# Altium footprint library Pcb_Passive_Componnent.PcbLib: 5 footprints
Each footprint in its own frame and in the unit in brackets; x right, y up, seen from the top. Pads: shape width x height; smd on the part's side, far side on the other; paste and mask are expansions set on the pad; w line width, h text height; cw(c..) or ccw(c..) is an arc to the next point about the centre after c.
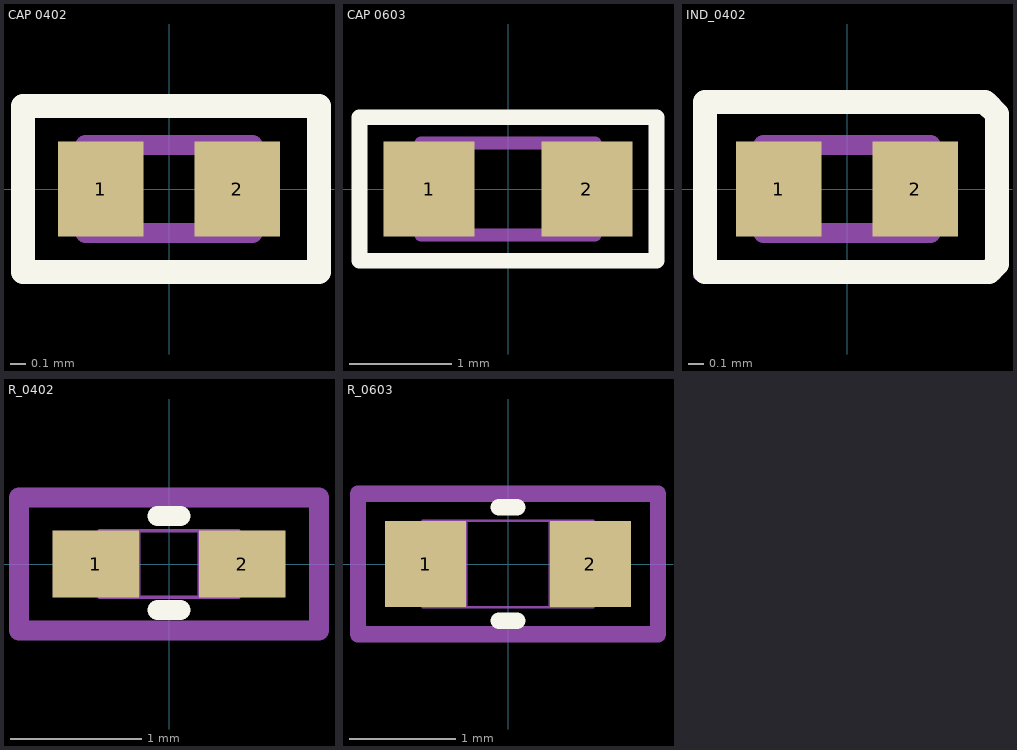
[diagram p0: the footprints below, top view; thin cyan lines are the x and y axes]

## CAP 0402 [mm]
pads (2):
  rect 0.54x0.6 smd: 1(-0.432,0) 2(0.432,0)
Top Overlay:
  lines w0.153: -0.925,-0.525 0.95,-0.525 0.95,0.525 0.481,0.525 -0.456,0.525 -0.925,0.525 -0.925,-0.525
Mechanical 13:
  lines w0.127: -0.53,-0.28 -0.53,0.28 0.53,0.28 0.53,-0.28 -0.53,-0.28
Mechanical 15:
  lines w0.05: -0.95,-0.55 -0.95,0.55 0.95,0.55 0.95,-0.55 -0.95,-0.55
3D body "step_temp.STEP": height 0.55, standoff 0, extent -0.5,-0.25 0.5,0.25

## CAP 0603 [mm]
pads (2):
  rect 0.89x0.93 smd: 1(-0.77,0) 2(0.77,0)
Top Overlay:
  lines w0.153: -1.45,-0.7 -1.45,0.7 1.45,0.7 1.45,-0.7 -1.45,-0.7
Mechanical 13:
  lines w0.127: -0.85,-0.45 0.85,-0.45 0.85,0.45 -0.85,0.45 -0.85,-0.45
Mechanical 15:
  lines w0.05: -1.465,-0.715 1.465,-0.715 1.465,0.715 -1.465,0.715 -1.465,-0.715
3D body "step_temp.STEP": height 0.9, standoff 0, extent -0.8,-0.4 0.8,0.4

## IND_0402 [mm]
pads (2):
  rect 0.54x0.6 smd: 1(-0.432,0) 2(0.432,0)
Top Overlay:
  lines w0.153: -0.9,-0.525 0.9,-0.525 0.95,-0.475 0.95,0.475 0.875,0.55 -0.9,0.55 -0.9,-0.525
Mechanical 13:
  lines w0.127: -0.53,-0.28 0.53,-0.28 0.53,0.28 -0.53,0.28 -0.53,-0.28
Mechanical 15:
  lines w0.05: -0.95,-0.55 0.95,-0.55 0.95,0.55 -0.95,0.55 -0.95,-0.55
3D body "INDC1005X55N.step": height 0.55, standoff 0, extent -0.5,-0.25 0.5,0.25

## R_0402 [mil]
pads (2):
  rect 26x20 smd paste+0 mask+0: 1(-22,0) 2(22,0)
Top Overlay:
  lines w6: -3.39,-13.78 3.39,-13.78 ; -3.39,14.44 3.39,14.44
Mechanical 13:
  lines w1: -21,-10 -21,10 ; -21,-10 21,-10 ; -21,-10 -9,-10 -9,10 -21,10 ; -21,-10 -21,10 ; -21,10 21,10 ; 21,-10 21,10 ; 21,-10 21,10 ; 21,-10 9,-10 9,10 21,10
Mechanical 15:
  lines w6: -45,-20 45,-20 45,20 -45,20 -45,-20
3D body "RC0402N_YAG.step": height 27.99, standoff 0, extent -20.98,-10 20.98,10

## R_0603 [mil]
pads (2):
  rect 30x32 smd paste+0 mask+0: 1(-30.5,0) 2(30.5,0)
Top Overlay:
  lines w6: -3.39,-21 3.39,-21 ; -3.39,21 3.39,21
Mechanical 13:
  lines w1: -31.5,-16 -31.5,16 ; -31.5,-16 -15.5,-16 -15.5,16 -31.5,16 ; -31.5,-16 31.5,-16 ; -31.5,-16 -31.5,16 ; -31.5,16 31.5,16 ; 31.5,-16 15.5,-16 15.5,16 31.5,16 ; 31.5,-16 31.5,16 ; 31.5,-16 31.5,16
Mechanical 15:
  lines w6: -55.5,-26 -55.5,26 55.5,26 55.5,-26 -55.5,-26
3D body "RC0603N_YAG.step": height 27.99, standoff 0, extent -31.5,-15.98 31.5,15.98